# Altium schematic symbol library A.Shelestov_Resistors.SchLib: 36 symbols
Pins are listed as number, name and electrical type; pins without a type are passive.

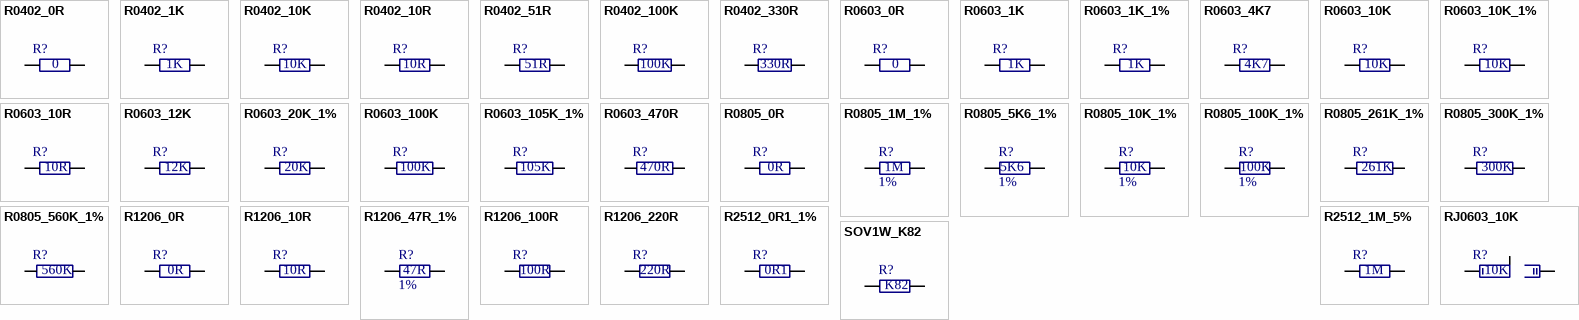
[diagram p0: symbols R0402_0R to SOV1W_K82]

## R0402_0R
designator R?  Resistance: 0
Resistor General; Tolerance: *; Size: 0402; PriceKosmodromUAH: 0,04; PriceRCSUAH: 0,05; Kosmodrom: http://www.kosmodrom.com.ua/el.php?name=0402SMDRES0OM5; RCS: https://www.rcscomponents.kiev.ua/product/0-ohm-0402-wr04x000ptl-walsin_105536.html
footprint R0402_NOSILK
footprint R0402
pins: 1, 2

## R0402_1K
designator R?  Resistance: 1K
Resistor General; Tolerance: 5%; Size: 0402; PriceRCSUAH: *; RCS: *
footprint R0402_NOSILK
footprint R0402
pins: 1, 2

## R0402_10K
designator R?  Resistance: 10K
Resistor General; Tolerance: 5%; Size: 0402; RCS: *; PriceRCSUAH: *
footprint R0402_NOSILK
footprint R0402
pins: 1, 2

## R0402_10R
designator R?  Resistance: 10R
Resistor General; Tolerance: 5%; Size: 0402; RCS: *; PriceRCSUAH: *
footprint R0402_NOSILK
footprint R0402
pins: 1, 2

## R0402_51R
designator R?  Resistance: 51R
Resistor General; Tolerance: *; Size: 0402; PriceKosmodromUAH: 0,03; PriceRCSUAH: 0,05; Kosmodrom: http://www.kosmodrom.com.ua/el.php?name=0402SMDRES51OM5; RCS: https://www.rcscomponents.kiev.ua/product/51-ohm-5-1-16w-50v-0402-rc0402jr-51r-hitano_11504.html
footprint R0402_NOSILK
footprint R0402
pins: 1, 2

## R0402_100K
designator R?  Resistance: 100K
Resistor General; Tolerance: 5%; Size: 0402; RCS: *; PriceRCSUAH: *
footprint R0402_NOSILK
footprint R0402
pins: 1, 2

## R0402_330R
designator R?  Resistance: 330R
Resistor General; Tolerance: 5%; Size: 0402; RCS: *; PriceRCSUAH: *
footprint R0402_NOSILK
footprint R0402
pins: 1, 2

## R0603_0R
designator R?  Resistance: 0
Resistor General; Tolerance: *; Size: 0603; PriceRCSUAH: 0,06; RCS: https://www.rcscomponents.kiev.ua/product/0-ohm-5-0-1w-50v-0603-rc0603jr-0r-hitano-rezistor-smd_4159.html
footprint R0603
footprint R0603_NOSILK
pins: 1, 2

## R0603_1K
designator R?  Resistance: 1K
Resistor General; Tolerance: 5%; Size: 0603; PriceRCSUAH: 0,06; RCS: https://www.rcscomponents.kiev.ua/product/1-kohm-5-0-1w-50v-0603-0603waj0102t5e-uniohm_147392.html
footprint R0603
footprint R0603_NOSILK
pins: 1, 2

## R0603_1K_1%
designator R?  Resistance: 1K
Resistor General; Tolerance: 1%; Size: 0603; PriceRCSUAH: 0,07; RCS: https://www.rcscomponents.kiev.ua/product/1-kohm-1-0-1w-50v-0603-rc0603fr-1kr-hitano-rezistor-smd_95976.html
footprint R0603
footprint R0603_NOSILK
pins: 1, 2

## R0603_4K7
designator R?  Resistance: 4K7
Resistor General; Tolerance: 5%; Owned: 3000; Size: 0603
footprint R0603
footprint R0603_NOSILK
pins: 1, 2

## R0603_10K
designator R?  Resistance: 10K
Resistor General; Tolerance: 5%; Owned: 3000; Size: 0603; PriceRCSUAH: 0,06; RCS: https://www.rcscomponents.kiev.ua/product/10-kohm-5-0-1w-50v-0603-rc0603jr-0710kl-yageo_107096.html
footprint R0603
footprint R0603_NOSILK
pins: 1, 2

## R0603_10K_1%
designator R?  Resistance: 10K
Resistor General; Tolerance: 1%; Size: 0603; PriceRCSUAH: 0,07; RCS: https://www.rcscomponents.kiev.ua/product/10-kohm-1-0-1w-50v-0603-rc0603fr-10kr-hitano-rezistor-smd_8516.html
footprint R0603
footprint R0603_NOSILK
pins: 1, 2

## R0603_10R
designator R?  Resistance: 10R
Resistor General; Tolerance: 5%; Owned: 3000; Size: 0603; PriceRCSUAH: *; RCS: *
footprint R0603
footprint R0603_NOSILK
pins: 1, 2

## R0603_12K
designator R?  Resistance: 12K
Resistor General; Tolerance: 5%; Owned: 3000; Size: 0603; PriceRCSUAH: 0,06; RCS: https://www.rcscomponents.kiev.ua/product/12-kohm-5-0-1w-50v-0603-rc0603jr-12k0-hitano-rezistor-smd_1014.html
footprint R0603
footprint R0603_NOSILK
pins: 1, 2

## R0603_20K_1%
designator R?  Resistance: 20K
Resistor General; Tolerance: 1%; Size: 0603; PriceRCSUAH: 0,07; RCS: https://www.rcscomponents.kiev.ua/product/20-kohm-1-0-1w-50v-0603-rc0603fr-20kr-hitano-rezistor-smd_16748.html
footprint R0603
footprint R0603_NOSILK
pins: 1, 2

## R0603_100K
designator R?  Resistance: 100K
Resistor General; Tolerance: 5%; Owned: 3000; Size: 0603
footprint R0603
footprint R0603_NOSILK
pins: 1, 2

## R0603_105K_1%
designator R?  Resistance: 105K
Resistor General; Tolerance: 1%; Size: 0603; PriceRCSUAH: 0,07; RCS: https://www.rcscomponents.kiev.ua/product/105-kohm-1-0-1w-50v-0603-rc0603fr-105k0-hitano-rezistor-smd_39565.html
footprint R0603
footprint R0603_NOSILK
pins: 1, 2

## R0603_470R
designator R?  Resistance: 470R
Resistor General; Tolerance: 5%; Owned: 3000; Size: 0603
footprint R0603
footprint R0603_NOSILK
pins: 1, 2

## R0805_0R
designator R?  Resistance: 0R
Resistor General; Owned: 3000; Tolerance: *; Size: 0805
footprint R0805
pins: 1, 2

## R0805_1M_1%
designator R?  Tolerance: 1%  Resistance: 1M
Resistor General; Size: 0805; PriceRCSUAH: 0,11; PriceKosmodromUAH: 0,17; RCS: https://www.rcscomponents.kiev.ua/product/1-mohm-1-0-125w-150v-0805-rc0805fr-1mr-hitano_11448.html; Kosmodrom: http://www.kosmodrom.com.ua/el.php?name=SMDRES08051MOM1
footprint R0805
pins: 1, 2

## R0805_5K6_1%
designator R?  Tolerance: 1%  Resistance: 5K6
Resistor General; Owned: 0; Size: 0805; RCS: *
footprint R0805
pins: 1, 2

## R0805_10K_1%
designator R?  Tolerance: 1%  Resistance: 10K
Resistor General; Owned: 0; Size: 0805; RCS: *
footprint R0805
pins: 1, 2

## R0805_100K_1%
designator R?  Tolerance: 1%  Resistance: 100K
Resistor General; Owned: 0; Size: 0805; RCS: *
footprint R0805
pins: 1, 2

## R0805_261K_1%
designator R?  Resistance: 261K
Resistor General; Tolerance: 1%; Size: 0805; PriceRCSUAH: 0,11; RCS: https://www.rcscomponents.kiev.ua/product/261-kohm-1-0-125w-150v-0805-rc0805fr-261k-hitano-rezistor-smd_27749.html
footprint R0805
pins: 1, 2

## R0805_300K_1%
designator R?  Resistance: 300K
Resistor General; Tolerance: 1%; Size: 0805; PriceKosmodromUAH: 0,12; PriceRCSUAH: N/A; Kosmodrom: http://www.kosmodrom.com.ua/el.php?name=SMDRES0805300KOM1; RCS: https://www.rcscomponents.kiev.ua/product/300-kohm-1-0-125w-150v-0805-rezistor-smd_3009.html
footprint R0805
pins: 1, 2

## R0805_560K_1%
designator R?  Resistance: 560K
Resistor General; Tolerance: 1%; Size: 0805; PriceRCSUAH: 0,11; PriceKosmodromUAH: 0,17; RCS: https://www.rcscomponents.kiev.ua/product/560-kohm-1-0-125w-150v-0805-rc0805fr-560kr-hitano_1487.html; Kosmodrom: http://www.kosmodrom.com.ua/el.php?name=SMDRES0805560KOM1
footprint R0805
pins: 1, 2

## R1206_0R
designator R?  Resistance: 0R
Resistor General; Tolerance: *; Size: 1206
footprint R1206
pins: 1, 2

## R1206_10R
designator R?  Resistance: 10R
Resistor General; Tolerance: *; Size: 1206; RCS: *
footprint R1206
pins: 1, 2

## R1206_47R_1%
designator R?  Tolerance: 1%  Resistance: 47R
Resistor General; Size: 1206; RCS: *
footprint R1206
pins: 1, 2

## R1206_100R
designator R?  Resistance: 100R
Resistor General; Tolerance: *; Size: 1206; RCS: *
footprint R1206
pins: 1, 2

## R1206_220R
designator R?  Resistance: 220R
Resistor General; Tolerance: *; Size: 1206; RCS: *
footprint R1206
pins: 1, 2

## R2512_0R1_1%
designator R?  Resistance: 0R1
Resistor General; Tolerance: 1%; TODO: Fix Precision: 5% instead of 1%; Size: 2512; PriceKosmodromUAH: 2,25; Kosmodrom: http://www.kosmodrom.com.ua/el.php?name=SMDRES25120.1OM5
footprint R2512
pins: 1, 2

## R2512_1M_5%
designator R?  Resistance: 1M
Resistor General; Tolerance: 5%; Size: 2512; PriceRCSUAH: 0,75; RCS: https://www.rcscomponents.kiev.ua/product/1-mohm-5-1w-2512-rc2512jk-1mr-hitano-rezistor-smd_51251.html
footprint R2512
pins: 1, 2

## RJ0603_10K
designator R?  Resistance: 10K
Resistor General; Tolerance: 5%; Owned: 3000; Size: 0603; RCS: https://www.rcscomponents.kiev.ua/product/10-kohm-5-0-1w-50v-0603-rc0603jr-0710kl-yageo_107096.html; PriceRCSUAH: 0,06
footprint RJ0603
pins: 1, 2, 3

## SOV1W_K82
designator R?  Resistance: K82
Resistor Soviet 1W; Tolerance: 5%; Owned: 3000; Size: 0603; RCS: https://www.rcscomponents.kiev.ua/product/10-kohm-5-0-1w-50v-0603-rc0603jr-0710kl-yageo_107096.html; PriceRCSUAH: 0,06
footprint SOV1W
pins: 1, 2